# EAGLE library part DIP-OPTOISO-3.55KV-TRANS-W/BASE-6DIP(4N35) (library Seeed-OPL-Transistor)
306040009
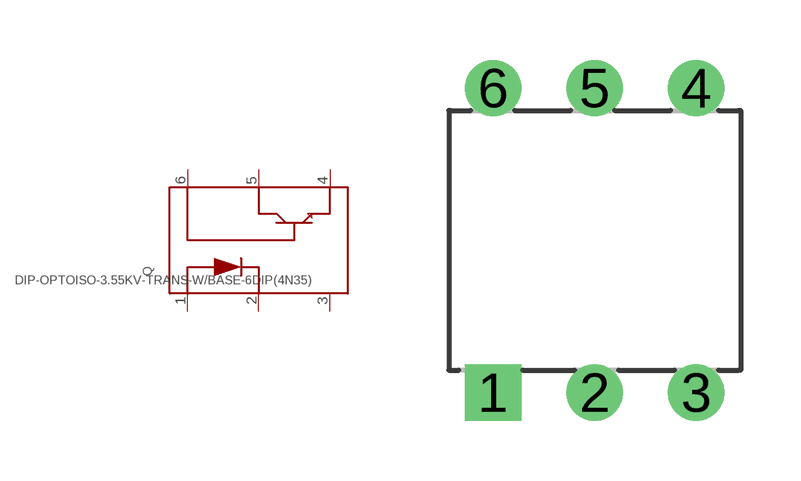
[diagram p3: symbol with the pads of DIP6-2.54-7.3X6.5MM; footprint DIP6-2.54-7.3X6.5MM]

Designator prefix Q

## DIP-OPTOISO-3.55KV-TRANS-W/BASE-6DIP(4N35) (MPN: 4N35; VALUE: 6P-7.3X6.5MM)  [DIP6-2.54-7.3X6.5MM]
1  ANODE
2  CATHODE
3  NC
4  EMITER
5  COLLECTOR
6  BASE

## Footprint DIP6-2.54-7.3X6.5MM (pad centres in mm)
drill 0.9 pad 1.4 square: 1 -2.54,-3.81
drill 0.9 pad 1.4: 2 0,-3.81; 3 2.54,-3.81; 4 2.54,3.81; 5 0,3.81; 6 -2.54,3.81